# EAGLE library part MOLEX_SL_16 (library molex-sl-connectors_jw)
Molex SL-Series PCB Header, 16-Pos, 0.1" (2.54mm) Centers
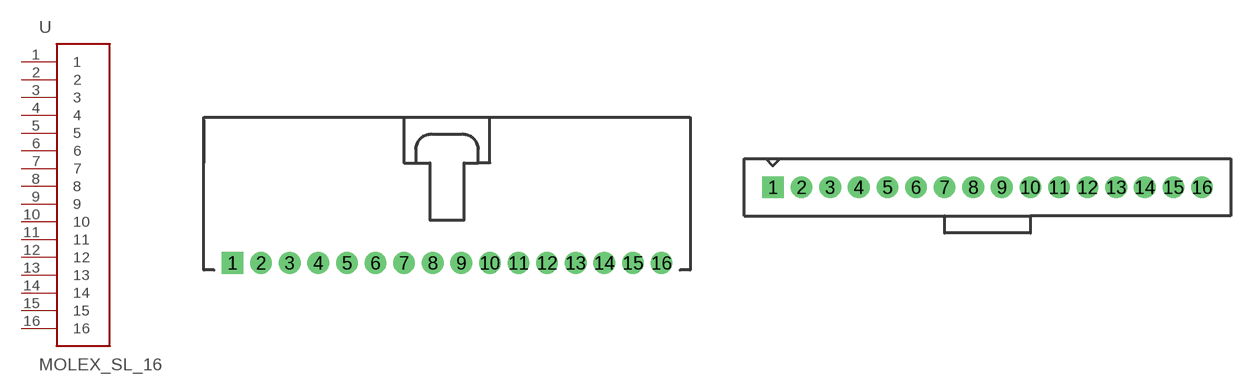
[diagram p10: symbol with the pads of SL_70553_16; footprints SL_70553_16, SL_70543_16]

Designator prefix -

## MOLEX_SL_16-70553  [SL_70553_16]
1  1
2  2
3  3
4  4
5  5
6  6
7  7
8  8
9  9
10  10
11  11
12  12
13  13
14  14
15  15
16  16

## MOLEX_SL_16-70543-74095  [SL_70543_16]
Pads as for SL_70553_16

## MOLEX_SL_16-70541-70545  [SL_70541_16]
Pads as for SL_70553_16

## MOLEX_SL_16-70551  [SL_70551_16]
Pads as for SL_70553_16

## MOLEX_SL_16-70555  [SL_70555_16]
Pads as for SL_70553_16

## MOLEX_SL_16-70634  [SL_70634_16]
Pads as for SL_70553_16

## MOLEX_SL_16-87898  [SL_87898_16]
Pads as for SL_70553_16

## Footprint SL_70553_16 (pad centres in mm)
Right-Angle Header w/ Latch (no pegs) 70553-0015 70553-0050 70553-0120 70553-0155
drill 1.1 pad 1.93 square: 1 -19.05,-5.08
drill 1.1 pad 1.93: 2 -16.51,-5.08; 3 -13.97,-5.08; 4 -11.43,-5.08; 5 -8.89,-5.08; 6 -6.35,-5.08; 7 -3.81,-5.08; 8 -1.27,-5.08; 9 1.27,-5.08; 10 3.81,-5.08; 11 6.35,-5.08; 12 8.89,-5.08; 13 11.43,-5.08; 14 13.97,-5.08; 15 16.51,-5.08; 16 19.05,-5.08

## Footprint SL_70543_16 (pad centres in mm)
Vertical Header w/ Latch & Optional Compliant Pins (no pegs) Normal Pins: 70543-0015 70543-0050 70543-0085 70543-0120 70543-0155 70543-0179 70543-0214 70543-0262 70543-0286 70543-0310 Compliant Pins 74095-0016 74095-0046 74095-0076 74095-1046 74095-1076
drill 1.1 pad 1.93 square: 1 -19.05,1.27
drill 1.1 pad 1.93: 2 -16.51,1.27; 3 -13.97,1.27; 4 -11.43,1.27; 5 -8.89,1.27; 6 -6.35,1.27; 7 -3.81,1.27; 8 -1.27,1.27; 9 1.27,1.27; 10 3.81,1.27; 11 6.35,1.27; 12 8.89,1.27; 13 11.43,1.27; 14 13.97,1.27; 15 16.51,1.27; 16 19.05,1.27

## Footprint SL_70541_16 (pad centres in mm)
Vertical Header w/ Latch & Pegs With Split Pegs: 70541-0015 70541-0050 70541-0085 With Tri-Pegs: 70545-0015 70545-0050 70545-0085
drill 1.1 pad 1.93 square: 1 -19.05,1.27
drill 1.1 pad 1.93: 2 -16.51,1.27; 3 -13.97,1.27; 4 -11.43,1.27; 5 -8.89,1.27; 6 -6.35,1.27; 7 -3.81,1.27; 8 -1.27,1.27; 9 1.27,1.27; 10 3.81,1.27; 11 6.35,1.27; 12 8.89,1.27; 13 11.43,1.27; 14 13.97,1.27; 15 16.51,1.27; 16 19.05,1.27
hole 3.404 at -23.114,0.508
hole 3.404 at 23.114,0.508

## Footprint SL_70551_16 (pad centres in mm)
Right-Angle Header w/ Latch & Split Pegs 70551-0015 70551-0050 70551-0085
drill 1.1 pad 1.93 square: 1 -19.05,-5.08
drill 1.1 pad 1.93: 2 -16.51,-5.08; 3 -13.97,-5.08; 4 -11.43,-5.08; 5 -8.89,-5.08; 6 -6.35,-5.08; 7 -3.81,-5.08; 8 -1.27,-5.08; 9 1.27,-5.08; 10 3.81,-5.08; 11 6.35,-5.08; 12 8.89,-5.08; 13 11.43,-5.08; 14 13.97,-5.08; 15 16.51,-5.08; 16 19.05,-5.08
hole 3.404 at -20.32,3.556
hole 3.404 at 20.32,3.556

## Footprint SL_70555_16 (pad centres in mm)
Right-Angle Header w/ Latch & Tri-Pegs 70555-0015 70555-0050 70555-0085 70555-5015
drill 1.1 pad 1.93 square: 1 -19.05,-5.08
drill 1.1 pad 1.93: 2 -16.51,-5.08; 3 -13.97,-5.08; 4 -11.43,-5.08; 5 -8.89,-5.08; 6 -6.35,-5.08; 7 -3.81,-5.08; 8 -1.27,-5.08; 9 1.27,-5.08; 10 3.81,-5.08; 11 6.35,-5.08; 12 8.89,-5.08; 13 11.43,-5.08; 14 13.97,-5.08; 15 16.51,-5.08; 16 19.05,-5.08
hole 3.404 at -20.447,3.556
hole 3.404 at 20.447,3.556

## Footprint SL_70634_16 (pad centres in mm)
SMD Right-Angle Header w/ Latch & PCB Pegs 70634-0015 70634-0050 70634-0085 70634-0120 70634-0155 70634-0190 70634-0216
smd 1.651 x 5.334: 1 -19.05,-7.62; 2 -16.51,-7.62; 3 -13.97,-7.62; 4 -11.43,-7.62; 5 -8.89,-7.62; 6 -6.35,-7.62; 7 -3.81,-7.62; 8 -1.27,-7.62; 9 1.27,-7.62; 10 3.81,-7.62; 11 6.35,-7.62; 12 8.89,-7.62; 13 11.43,-7.62; 14 13.97,-7.62; 15 16.51,-7.62; 16 19.05,-7.62
hole 3.404 at -20.472,3.048
hole 3.404 at 20.447,3.099

## Footprint SL_87898_16 (pad centres in mm)
SMD Vertical Header (no latch or pegs) Package also includes Pick-N-Place Cap Tube packaging w/o Pick-N-Place Cap: 87898-1621 87898-1622 87898-1624 87898-1625 87898-1626 Tube packaging w/ Pick-N-Place Cap: 87898-1631 87898-1632 87898-1634 87898-1635 87898-1636 Tape & Reel packaging w/ Pick-N-Place Cap: 87898-1651 87898-1652 87898-1654 87898-1655 87898-1656
smd 1.27 x 2.946: 1 -19.05,1.803; 2 -16.51,-1.803; 3 -13.97,1.803; 4 -11.43,-1.803; 5 -8.89,1.803; 6 -6.35,-1.803; 7 -3.81,1.803; 8 -1.27,-1.803; 9 1.27,1.803; 10 3.81,-1.803; 11 6.35,1.803; 12 8.89,-1.803; 13 11.43,1.803; 14 13.97,-1.803; 15 16.51,1.803; 16 19.05,-1.803